# Altium schematic symbol library IC_Real_Time_Clock.SchLib: 1 symbol
Pins are listed as number, name and electrical type; pins without a type are passive.

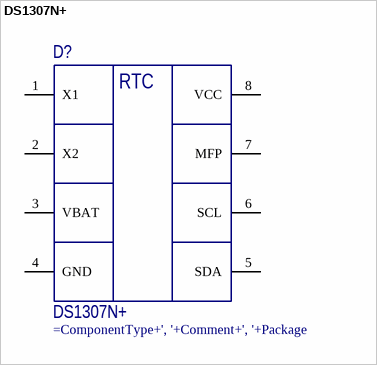
[diagram p0: symbol DS1307N+]

## DS1307N+
designator D?
Микросхема ЧРВ; ComponentTypе: Микросхема ЧРВ; ComponentDescription: =ComponentTypе+', '+Comment+', '+Package
footprint 8-SOIC (SOIC, 8-Leads, Body 4,90x3,90mm, Pitch 1,27mm, IPC Medium Density)
pins: 1 X1, 2 X2, 3 VBAT, 4 GND, 5 SDA, 6 SCL, 7 MFP, 8 VCC
text: RTC